# EAGLE library part 9077-2 (library NixieTube)
MARQUARDT SWITCH 9077.0200 Distributor: Buerklin <https://www.buerklin.com/default.asp?event=ShowArtikel%2812G2822%29&l=d&jump=ArtNr_12G2822>
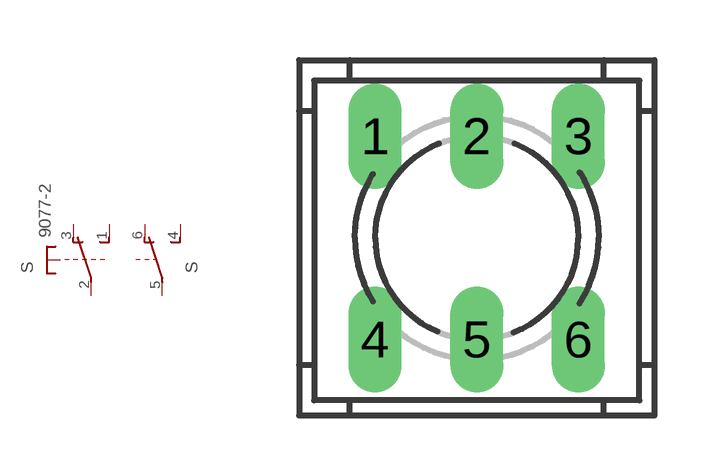
[diagram p4: symbol with the pads of 9077-2; footprint 9077-2]

Designator prefix S; gates 1=TSU- 2=U-2

## 9077-2  [9077-2]
1  1:S  pas
2  1:P  pas
3  1:O  pas
4  2:S  pas
5  2:P  pas
6  2:O  pas

## Footprint 9077-2 (pad centres in mm)
MARQUARDT SWITCH 9077.0200 Distributor: Buerklin <https://www.buerklin.com/default.asp?event=ShowArtikel%2812G2822%29&l=d&jump=ArtNr_12G2822>
drill 0.813 long: 1 -2.54,2.54; 2 0,2.54; 3 2.54,2.54; 4 -2.54,-2.54; 5 0,-2.54; 6 2.54,-2.54